# Altium footprint library SOIC-14.PcbLib: 1 footprints
Each footprint in its own frame and in the unit in brackets; x right, y up, seen from the top. Pads: shape width x height; smd on the part's side, far side on the other; paste and mask are expansions set on the pad; w line width, h text height; cw(c..) or ccw(c..) is an arc to the next point about the centre after c.
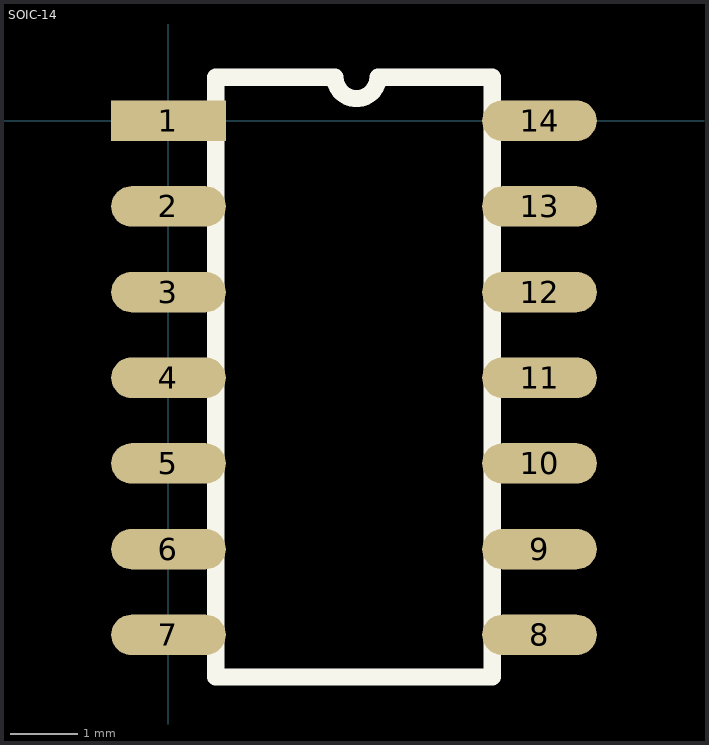
[diagram p0: the footprint, top view; thin cyan lines are the x and y axes]

## SOIC-14 [mm]
pads (14):
  rect 1.7x0.6 smd: 1(0,0)
  oval 1.7x0.6 smd: 2(0,-1.27) 3(0,-2.54) 4(0,-3.81) 5(0,-5.08) 6(0,-6.35) 7(0,-7.62) 8(5.5,-7.62) 9(5.5,-6.35) 10(5.5,-5.08) 11(5.5,-3.81) 12(5.5,-2.54) 13(5.5,-1.27) 14(5.5,0)
Top Overlay:
  lines w0.254: 0.7,-8.245 4.8,-8.245 4.8,0.645 3.105,0.645 cw(c2.787,0.645) 2.47,0.645 0.7,0.645 0.7,-8.245
3D body "SOIC-14.step": height 1.75, standoff 0, extent -0.213,-8.185 5.787,0.565